# Altium footprint library Capacitor Non-Polar Tubular.PcbLib: 65 footprints (part 1 of 5)
Each footprint in its own frame and in the unit in brackets; x right, y up, seen from the top. Pads: shape width x height; smd on the part's side, far side on the other; paste and mask are expansions set on the pad; w line width, h text height; cw(c..) or ccw(c..) is an arc to the next point about the centre after c.
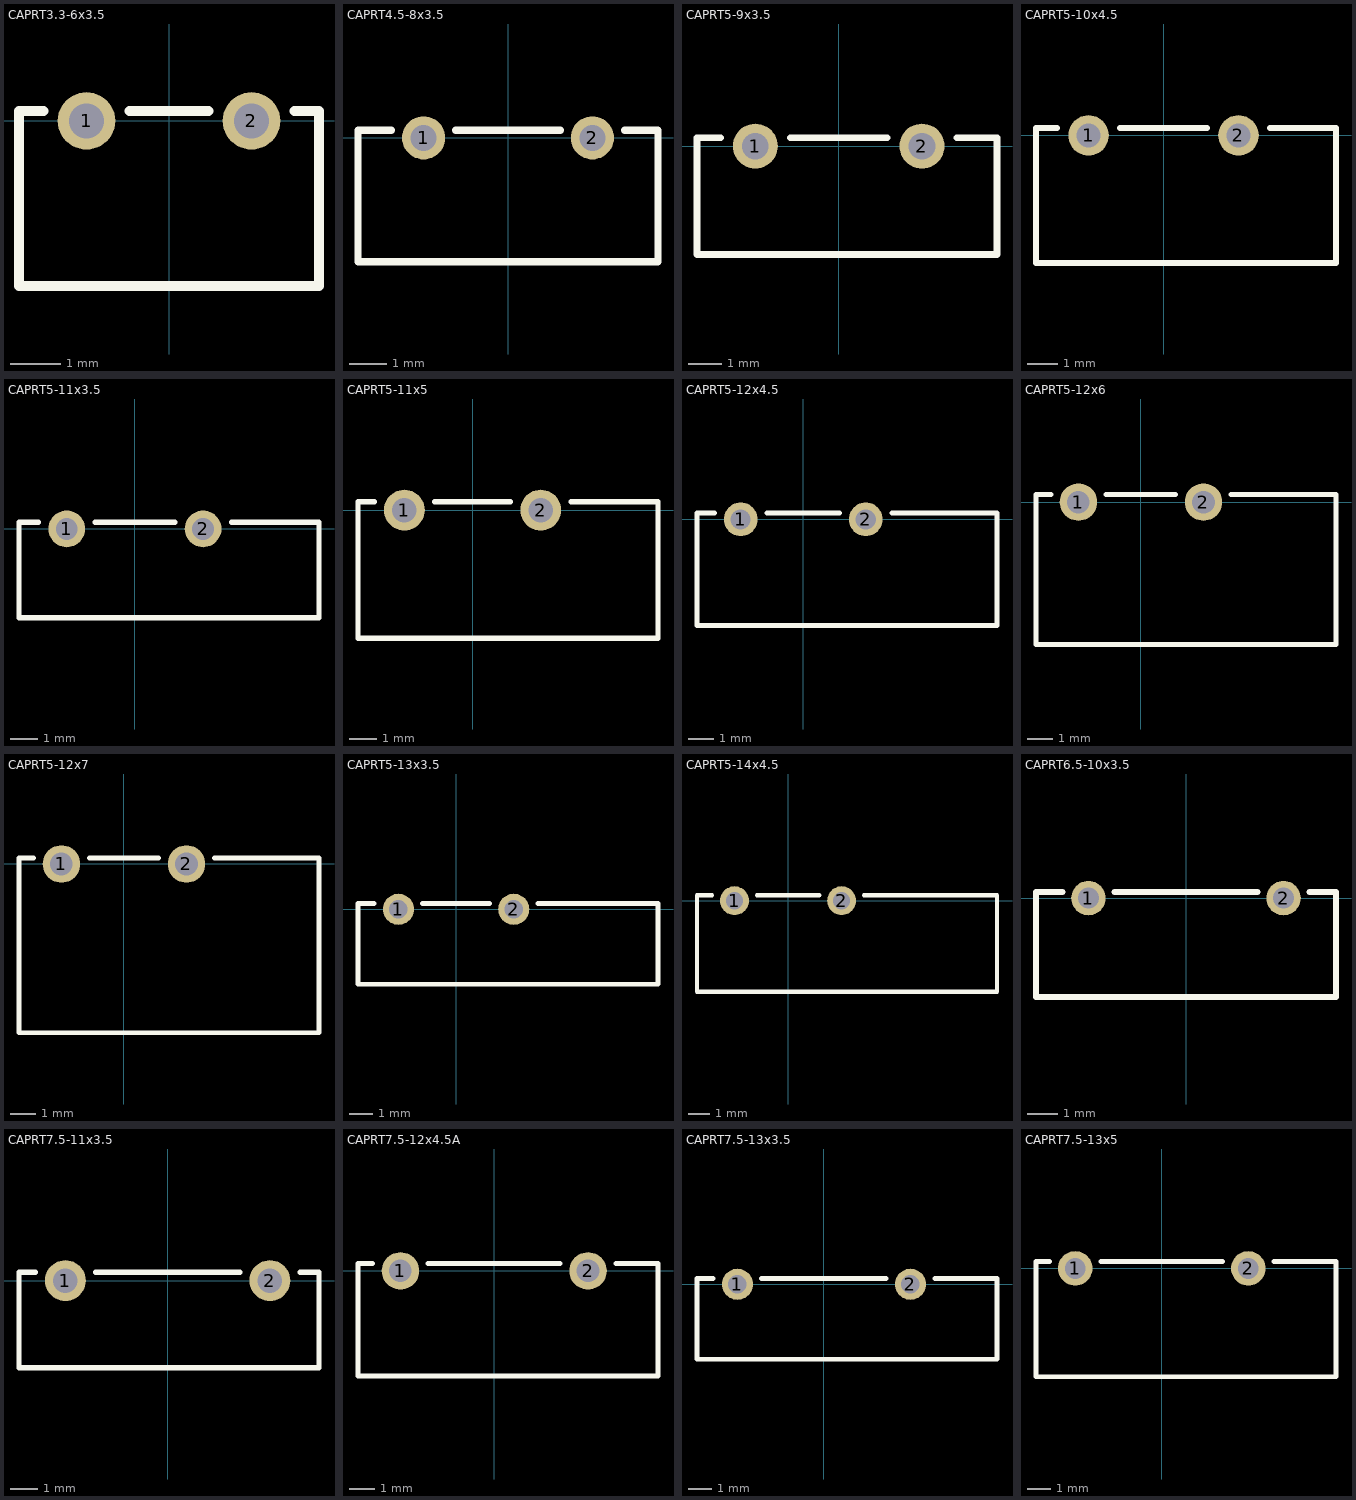
[diagram p0: the footprints below, top view; thin cyan lines are the x and y axes]

## CAPRT3.3-6x3.5 [mm] "Capacitor, Ceramic, Thu-Hole, Tubular; Body 6 x 3.5 mm (LxDia. max) Pin Spacing 3.3 mm (typ)"
height 6.5
pads (2):
  round 1.15 hole 0.7: 1(-1.65,0) 2(1.65,0)
Top Overlay:
  lines w0.2: -2.51,0.2 -3,0.2 -3,-3.3 3,-3.3 3,0.2 2.51,0.2 ; -0.79,0.2 0.79,0.2

## CAPRT4.5-8x3.5 [mm] "Capacitor, Ceramic, Thu-Hole, Tubular; Body 8 x 3.5 mm (LxDia. max) Pin Spacing 4.5 mm (typ)"
height 6.5
pads (2):
  round 1.15 hole 0.7: 1(-2.25,0) 2(2.25,0)
Top Overlay:
  lines w0.2: -3.11,0.2 -4,0.2 -4,-3.3 4,-3.3 4,0.2 3.11,0.2 ; -1.39,0.2 1.39,0.2

## CAPRT5-9x3.5 [mm] "Capacitor, Ceramic, Thu-Hole, Tubular; Body 9 x 3.5 mm (LxDia. max) Pin Spacing 5 mm (typ)"
height 5.5
pads (2):
  round 1.35 hole 0.8: 1(-2.5,0) 2(2.5,0)
Top Overlay:
  lines w0.2: -3.546,0.25 -4.25,0.25 -4.25,-3.25 4.75,-3.25 4.75,0.25 3.546,0.25 ; -1.454,0.25 1.454,0.25

## CAPRT5-10x4.5 [mm] "Capacitor, Ceramic, Thu-Hole, Tubular; Body 10 x 4.5 mm (LxDia. max) Pin Spacing 5 mm (typ)"
height 7.5
pads (2):
  round 1.35 hole 0.8: 1(-2.5,0) 2(2.5,0)
Top Overlay:
  lines w0.2: -3.546,0.25 -4.25,0.25 -4.25,-4.25 5.75,-4.25 5.75,0.25 3.546,0.25 ; -1.454,0.25 1.454,0.25

## CAPRT5-11x3.5 [mm] "Capacitor, Ceramic, Thu-Hole, Tubular; Body 11 x 3.5 mm (LxDia. max) Pin Spacing 5 mm (typ)"
height 5.5
pads (2):
  round 1.35 hole 0.8: 1(-2.5,0) 2(2.5,0)
Top Overlay:
  lines w0.2: -3.546,0.25 -4.25,0.25 -4.25,-3.25 6.75,-3.25 6.75,0.25 3.546,0.25 ; -1.454,0.25 1.454,0.25

## CAPRT5-11x5 [mm] "Capacitor, Ceramic, Thu-Hole, Tubular; Body 11 x 5 mm (LxDia. max) Pin Spacing 5 mm (typ)"
height 7
pads (2):
  round 1.5 hole 0.9: 1(-2.5,0) 2(2.5,0)
Top Overlay:
  lines w0.2: -3.61,0.3 -4.2,0.3 -4.2,-4.7 6.8,-4.7 6.8,0.3 3.61,0.3 ; -1.39,0.3 1.39,0.3

## CAPRT5-12x4.5 [mm] "Capacitor, Ceramic, Thu-Hole, Tubular; Body 12 x 4.5 mm (LxDia. max) Pin Spacing 5 mm (typ)"
height 7.5
pads (2):
  round 1.35 hole 0.8: 1(-2.5,0) 2(2.5,0)
Top Overlay:
  lines w0.2: -3.546,0.25 -4.25,0.25 -4.25,-4.25 7.75,-4.25 7.75,0.25 3.546,0.25 ; -1.454,0.25 1.454,0.25

## CAPRT5-12x6 [mm] "Capacitor, Ceramic, Thu-Hole, Tubular; Body 12 x 6 mm (LxDia. max) Pin Spacing 5 mm (typ)"
height 9
pads (2):
  round 1.5 hole 0.9: 1(-2.5,0) 2(2.5,0)
Top Overlay:
  lines w0.2: -3.61,0.3 -4.2,0.3 -4.2,-5.7 7.8,-5.7 7.8,0.3 3.61,0.3 ; -1.39,0.3 1.39,0.3

## CAPRT5-12x7 [mm] "Capacitor, Ceramic, Thu-Hole, Tubular; Body 12 x 7 mm (LxDia. max) Pin Spacing 5 mm (typ)"
height 10
pads (2):
  round 1.5 hole 0.9: 1(-2.5,0) 2(2.5,0)
Top Overlay:
  lines w0.2: -3.622,0.25 -4.2,0.25 -4.2,-6.75 7.8,-6.75 7.8,0.25 3.622,0.25 ; -1.378,0.25 1.378,0.25

## CAPRT5-13x3.5 [mm] "Capacitor, Ceramic, Thu-Hole, Tubular; Body 13 x 3.5 mm (LxDia. max) Pin Spacing 5 mm (typ)"
height 5.5
pads (2):
  round 1.35 hole 0.8: 1(-2.5,0) 2(2.5,0)
Top Overlay:
  lines w0.2: -3.546,0.25 -4.25,0.25 -4.25,-3.25 8.75,-3.25 8.75,0.25 3.546,0.25 ; -1.454,0.25 1.454,0.25

## CAPRT5-14x4.5 [mm] "Capacitor, Ceramic, Thu-Hole, Tubular; Body 14 x 4.5 mm (LxDia. max) Pin Spacing 5 mm (typ)"
height 7.5
pads (2):
  round 1.35 hole 0.8: 1(-2.5,0) 2(2.5,0)
Top Overlay:
  lines w0.2: -3.546,0.25 -4.25,0.25 -4.25,-4.25 9.75,-4.25 9.75,0.25 3.546,0.25 ; -1.454,0.25 1.454,0.25

## CAPRT6.5-10x3.5 [mm] "Capacitor, Ceramic, Thu-Hole, Tubular; Body 10 x 3.5 mm (LxDia. max) Pin Spacing 6.5 mm (typ)"
height 6.5
pads (2):
  round 1.15 hole 0.7: 1(-3.25,0) 2(3.25,0)
Top Overlay:
  lines w0.2: -4.11,0.2 -5,0.2 -5,-3.3 5,-3.3 5,0.2 4.11,0.2 ; -2.39,0.2 2.39,0.2

## CAPRT7.5-11x3.5 [mm] "Capacitor, Ceramic, Thu-Hole, Tubular; Body 11 x 3.5 mm (LxDia. max) Pin Spacing 7.5 mm (typ)"
height 5.5
pads (2):
  round 1.5 hole 0.9: 1(-3.75,0) 2(3.75,0)
Top Overlay:
  lines w0.2: -4.86,0.3 -5.45,0.3 -5.45,-3.2 5.55,-3.2 5.55,0.3 4.86,0.3 ; -2.64,0.3 2.64,0.3

## CAPRT7.5-12x4.5A [mm] "Capacitor, Ceramic, Thu-Hole, Tubular; Body 12 x 4.5 mm (LxDia. max) Pin Spacing 7.5 mm (typ)"
height 7.5
pads (2):
  round 1.5 hole 0.9: 1(-3.75,0) 2(3.75,0)
Top Overlay:
  lines w0.2: -4.86,0.3 -5.45,0.3 -5.45,-4.2 6.55,-4.2 6.55,0.3 4.86,0.3 ; -2.64,0.3 2.64,0.3

## CAPRT7.5-13x3.5 [mm] "Capacitor, Ceramic, Thu-Hole, Tubular; Body 13 x 3.5 mm (LxDia. max) Pin Spacing 7.5 mm (typ)"
height 5.5
pads (2):
  round 1.35 hole 0.8: 1(-3.75,0) 2(3.75,0)
Top Overlay:
  lines w0.2: -4.796,0.25 -5.5,0.25 -5.5,-3.25 7.5,-3.25 7.5,0.25 4.796,0.25 ; -2.704,0.25 2.704,0.25

## CAPRT7.5-13x5 [mm] "Capacitor, Ceramic, Thu-Hole, Tubular; Body 13 x 5 mm (LxDia. max) Pin Spacing 7.5 mm (typ)"
height 7
pads (2):
  round 1.5 hole 0.9: 1(-3.75,0) 2(3.75,0)
Top Overlay:
  lines w0.2: -4.86,0.3 -5.45,0.3 -5.45,-4.7 7.55,-4.7 7.55,0.3 4.86,0.3 ; -2.64,0.3 2.64,0.3